# EAGLE library part R-4R* (library Elecrow_Discrete)
Resistor Array
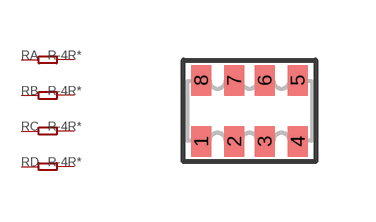
[diagram p2: symbol with the pads of 1206-8-3.3X2.4; footprint 1206-8-3.3X2.4]

Designator prefix R; gates A=R B=R C=R D=R

## R-4R-1206  [1206-8-3.3X2.4]
1  A:1  pas
2  B:1  pas
3  C:1  pas
4  D:1  pas
5  D:2  pas
6  C:2  pas
7  B:2  pas
8  A:2  pas

## Footprint 1206-8-3.3X2.4 (pad centres in mm)
BOURNS Chip Resistor Array Source: RS Component / BUORNS
smd 0.508 x 0.762: 1 -1.206,-0.762; 2 -0.381,-0.762; 3 0.381,-0.762; 4 1.206,-0.762; 5 1.206,0.762; 6 0.381,0.762; 7 -0.381,0.762; 8 -1.206,0.762